# EAGLE library part PE43704 (library custom)
RF Attenuator 31.75dB 7-bit Serial 3-5V
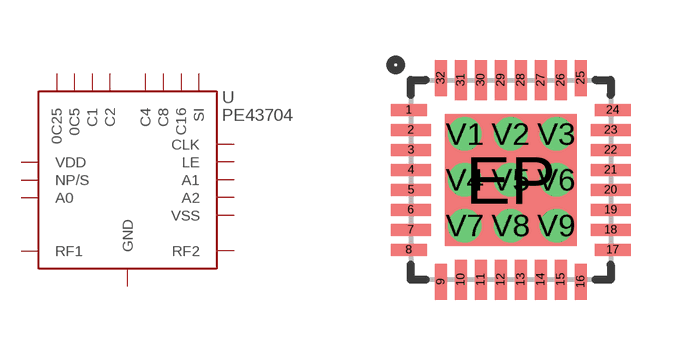
[diagram p118: symbol with the pads of 32-QFN; footprint 32-QFN]

Designator prefix U

## PE43704  [32-QFN]
2  VDD
3  NP/S
4  A0
5  GND
6  GND
7  RF1
8  GND
9  GND
10  GND
11  GND
12  GND
13  GND
14  GND
15  GND
16  GND
17  GND
18  RF2
19  GND
20  VSS
21  A2
22  A1
23  LE
24  CLK
25  SI
26  C16
27  C8
28  C4
29  C2
30  C1
31  0C5
32  0C25
EP  GND
V1  GND
V2  GND
V3  GND
V4  GND
V5  GND
V6  GND
V7  GND
V8  GND
V9  GND

## Footprint 32-QFN (pad centres in mm)
smd 0.9 x 0.3: 1 -2.55,1.75; 8 -2.55,-1.75; 17 2.55,-1.75; 24 2.55,1.75
smd 1 x 0.3: 2 -2.5,1.25; 3 -2.5,0.75; 4 -2.5,0.25; 5 -2.5,-0.25; 6 -2.5,-0.75; 7 -2.5,-1.25; 18 2.5,-1.25; 19 2.5,-0.75; 20 2.5,-0.25; 21 2.5,0.25; 22 2.5,0.75; 23 2.5,1.25
smd 0.3 x 0.9: 9 -1.75,-2.55; 16 1.75,-2.55; 25 1.75,2.55; 32 -1.75,2.55
smd 0.3 x 1: 10 -1.25,-2.5; 11 -0.75,-2.5; 12 -0.25,-2.5; 13 0.25,-2.5; 14 0.75,-2.5; 15 1.25,-2.5; 26 1.25,2.5; 27 0.75,2.5; 28 0.25,2.5; 29 -0.25,2.5; 30 -0.75,2.5; 31 -1.25,2.5
smd 3.3 x 3.3: EP 0,0
drill 0.33: V1 -1.145,1.145; V2 0,1.145; V3 1.145,1.145; V4 -1.145,0; V5 0,0; V6 1.145,0; V7 -1.145,-1.145; V8 0,-1.145; V9 1.145,-1.145